# EAGLE library part BEAGLEBOARD-XM-REV:A3-B (library QuantumOptics)
BeagleBoard xM, Rev:A3 to B, from http://beagleboard.org/. ARM Cortex-A8 in T.I. Da Vinci OMAP3530.
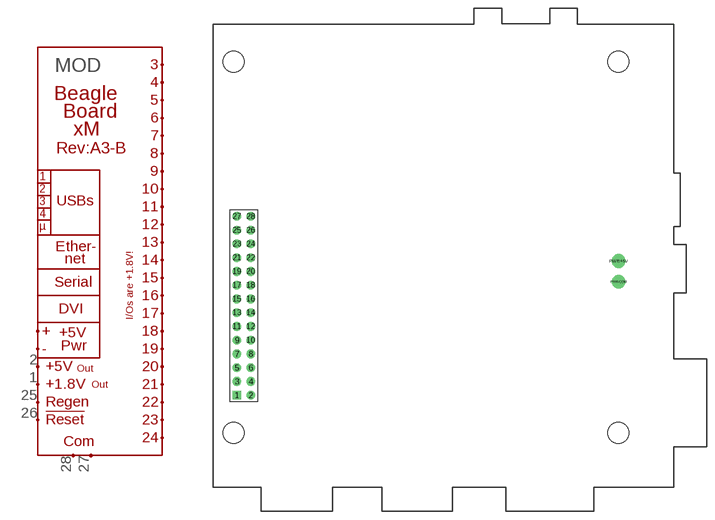
[diagram p135: symbol with the pads of BEAGLEBOARD-XM-REV:A3-B; footprint BEAGLEBOARD-XM-REV:A3-B]

Designator prefix MOD

## BEAGLEBOARD-XM-REV:A3-B (HEADER: Molex 90131-0774; POWER: Tensility Intl Corp: CA-2191)  [BEAGLEBOARD-XM-REV:A3-B]
1  +1.8V  out
2  +5V  out
3  3
4  4
5  5
6  6
7  7
8  8
9  9
10  10
11  11
12  12
13  13
14  14
15  15
16  16
17  17
18  18
19  19
20  20
21  21
22  22
23  23
24  24
25  REGEN  out
26  /RESET  in
27  COM1
28  COM2
PWR+5V  PWR+5V
PWR-COM  PWR-COM

## Footprint BEAGLEBOARD-XM-REV:A3-B (pad centres in mm)
BeagleBoard xM, Rev:A3 to B, from http://beagleboard.org/
drill 1.067 square: 1 0.635,6.985
drill 1.067: 2 3.175,6.985; 3 0.635,9.525; 4 3.175,9.525; 5 0.635,12.065; 6 3.175,12.065; 7 0.635,14.605; 8 3.175,14.605; 9 0.635,17.145; 10 3.175,17.145; 11 0.635,19.685; 12 3.175,19.685; 13 0.635,22.225; 14 3.175,22.225; 15 0.635,24.765; 16 3.175,24.765; 17 0.635,27.305; 18 3.175,27.305; 19 0.635,29.845; 20 3.175,29.845; 21 0.635,32.385; 22 3.175,32.385; 23 0.635,34.925; 24 3.175,34.925; 25 0.635,37.465; 26 3.175,37.465; 27 0.635,40.005; 28 3.175,40.005
drill 1.067 pad 2.54: PWR+5V 71.12,31.75; PWR-COM 71.12,27.94
hole 3.861 at 0,0
hole 3.861 at 71.12,0
hole 3.861 at 71.12,68.58
hole 3.861 at 0,68.58